# Altium footprint library MORNSUN_K78XXJT-500R3-LB.PcbLib: 1 footprints
Each footprint in its own frame and in the unit in brackets; x right, y up, seen from the top. Pads: shape width x height; smd on the part's side, far side on the other; paste and mask are expansions set on the pad; w line width, h text height; cw(c..) or ccw(c..) is an arc to the next point about the centre after c.
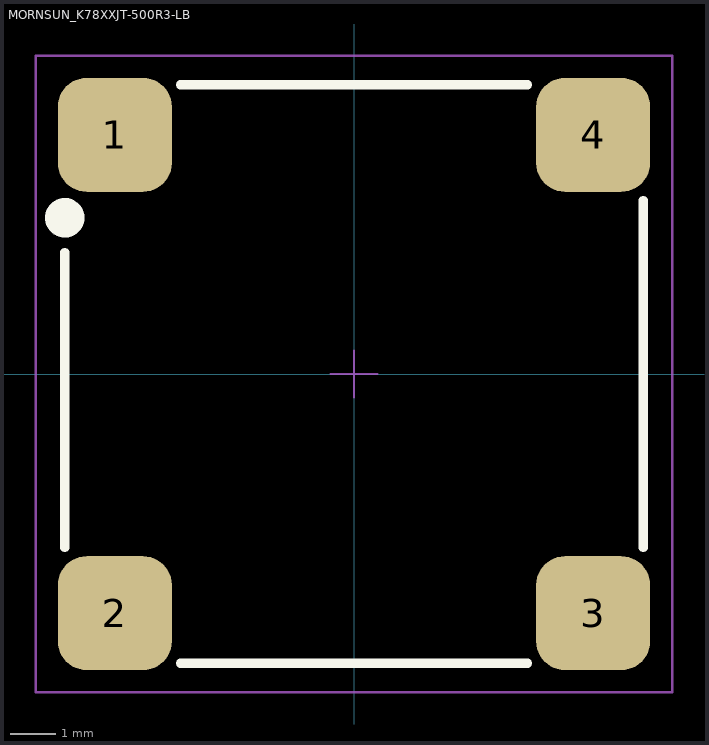
[diagram p0: the footprint, top view; thin cyan lines are the x and y axes]

## MORNSUN_K78XXJT-500R3-LB [mm]
pads (4):
  rrect50% 2.5x2.5 smd: 1(-5.25,5.25) 2(-5.25,-5.25) 3(5.25,-5.25) 4(5.25,5.25)
Top Overlay:
  circle w0.508: c-6.35,3.429 r0.18
  lines w0.2: -6.35,-3.81 -6.35,2.667 ; -3.81,-6.35 3.81,-6.35 ; -3.81,6.35 3.81,6.35 ; 6.35,-3.81 6.35,3.81
Mechanical 15:
  lines w0.05: -0.508,0 0.508,0 ; 0,-0.508 0,0.508 ; -6.985,-6.985 -6.985,6.985 6.985,6.985 6.985,-6.985 -6.985,-6.985
3D body "K78_JT-500R3-LB.step": height 4.52, standoff 0.02, extent -6.057,-6.057 6.057,6.057